# Altium footprint library TinyK20.PcbLib: 6 footprints
Each footprint in its own frame and in the unit in brackets; x right, y up, seen from the top. Pads: shape width x height; smd on the part's side, far side on the other; paste and mask are expansions set on the pad; w line width, h text height; cw(c..) or ccw(c..) is an arc to the next point about the centre after c.
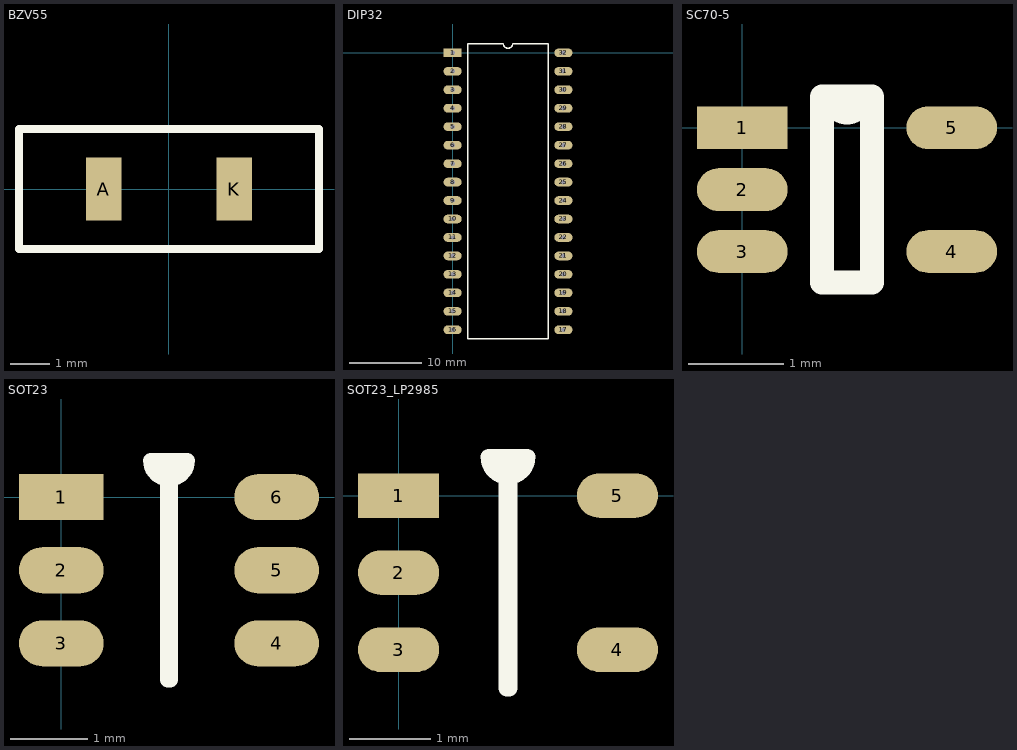
[diagram p0: the footprints below, top view; thin cyan lines are the x and y axes]

## BZV55 [mm]
pads (2):
  rect 0.9x1.6 smd: A(-1.65,0) K(1.65,0)
Top Overlay:
  lines w0.2: -3.8,-1.524 -3.8,0 -3.8,1.524 3.8,1.524 3.8,-1.524 -3.8,-1.524

## DIP32 [mm]
pads (32):
  rect 2.5x1.2 hole 0.6: 1(0,0)
  oval 2.5x1.2 hole 0.6: 2(0,-2.54) 3(0,-5.08) 4(0,-7.62) 5(0,-10.16) 6(0,-12.7) 7(0,-15.24) 8(0,-17.78) 9(0,-20.32) 10(0,-22.86) 11(0,-25.4) 12(0,-27.94) 13(0,-30.48) 14(0,-33.02) 15(0,-35.56) 16(0,-38.1) 17(15.24,-38.1) 18(15.24,-35.56) 19(15.24,-33.02) 20(15.24,-30.48) 21(15.24,-27.94) 22(15.24,-25.4) 23(15.24,-22.86) 24(15.24,-20.32) 25(15.24,-17.78) 26(15.24,-15.24) 27(15.24,-12.7) 28(15.24,-10.16) 29(15.24,-7.62) 30(15.24,-5.08) 31(15.24,-2.54) 32(15.24,0)
Top Overlay:
  lines w0.2: 2.085,-39.37 2.085,1.27 6.985,1.27 ccw(c7.62,1.27) 8.255,1.27 13.155,1.27 13.155,-39.37 2.085,-39.37

## PCBComponent_1 [mm]

## SC70-5 [mm]
pads (5):
  rect 0.95x0.45 smd: 1(0,0)
  oval 0.95x0.45 smd: 2(0,-0.65) 3(0,-1.3) 4(2.2,-1.3) 5(2.2,0)
Top Overlay:
  lines w0.254: 0.836,-1.625 1.364,-1.625 1.364,0.325 0.938,0.325 ccw(c1.1,0.325) 1.262,0.325 0.836,0.325 0.836,-1.625

## SOT23 [mm]
pads (6):
  rect 1.1x0.6 smd: 1(0,0)
  oval 1.1x0.6 smd: 2(0,-0.95) 3(0,-1.9) 4(2.8,-1.9) 5(2.8,-0.95) 6(2.8,0)
Top Overlay:
  lines w0.2: 1.162,0.475 ccw(c1.4,0.475) 1.637,0.475 1.415,0.475 1.415,-2.375 1.385,-2.375 1.385,0.475 1.162,0.475

## SOT23_LP2985 [mm]
pads (5):
  rect 1x0.55 smd: 1(0,0)
  oval 1x0.55 smd: 2(0,-0.95) 3(0,-1.9) 4(2.7,-1.9) 5(2.7,0)
Top Overlay:
  lines w0.2: 1.112,0.475 ccw(c1.35,0.475) 1.587,0.475 1.365,0.475 1.365,-2.375 1.335,-2.375 1.335,0.475 1.112,0.475